# EAGLE library part TPS54320 (library .custom-active)
TPS54320 4.5V to 17V Input, 3A Synchronous Step Down Converter 57-mΩ / 50-mΩ MOSFETs
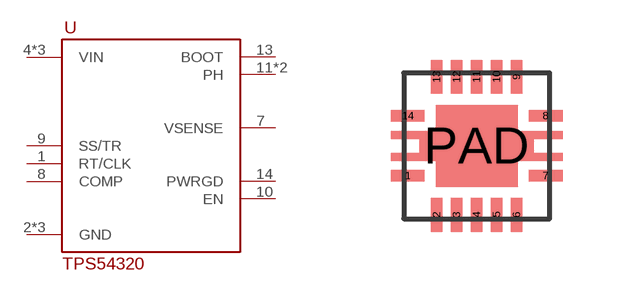
[diagram p1: symbol with the pads of S-PVQFN-N14; footprint S-PVQFN-N14]

Designator prefix U

## TPS54320 (MRF: Texas Instruments; PN: TPS54320)  [S-PVQFN-N14]
1  RT/CLK
2  GND
3  GND
4  VIN
5  VIN
6  VIN
7  VSENSE
8  COMP
9  SS/TR
10  EN
11  PH
12  PH
13  BOOT
14  PWRGD
PAD  GND

## Footprint S-PVQFN-N14 (pad centres in mm)
smd 0.85 x 0.28: 1 -1.725,-0.75; 7 1.725,-0.75; 8 1.725,0.75; 14 -1.725,0.75
smd 0.28 x 0.85: 2 -1,-1.725; 3 -0.5,-1.725; 4 0,-1.725; 5 0.5,-1.725; 6 1,-1.725; 9 1,1.725; 10 0.5,1.725; 11 0,1.725; 12 -0.5,1.725; 13 -1,1.725
smd 2.05 x 2.05: PAD 0,0